# EAGLE library part LM22680QMRE-ADJ_NOPB (library LM22680QMRE-ADJ_NOPB)
2A SIMPLE SWITCHER, Step-Down Voltage Regulator with Precision Enable Source: Datasheet <http://www.ti.com/lit/gpn/lm22680-q1>
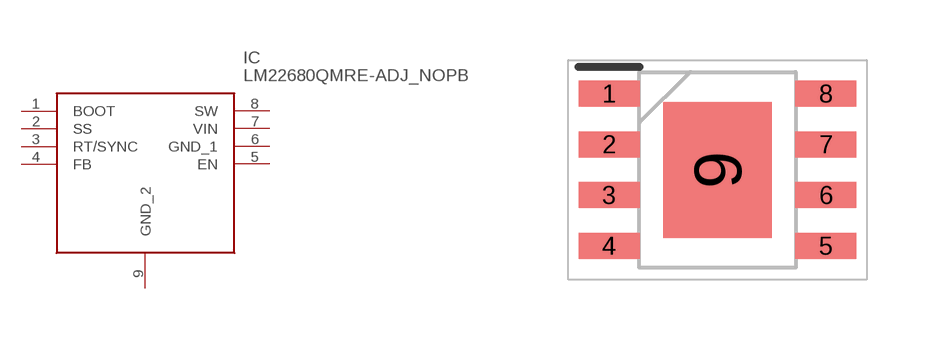
[diagram p0: symbol with the pads of SOIC127P600X170-9N; footprint SOIC127P600X170-9N]

Designator prefix IC

## LM22680QMRE-ADJ_NOPB (Description: 2A SIMPLE SWITCHER, Step-Down Voltage Regulator with Precision Enable; Height: 1.7mm; Manufacturer_Name: Texas Instruments; Manufacturer_Part_Number: LM22680QMRE-ADJ/NOPB; Mouser_Part_Number: 926-L22680QMREADJNPB; Mouser_Price-Stock: https://www.mouser.co.uk/ProductDetail/Texas-Instruments/LM22680QMRE-ADJ-NOPB?qs=g9WlUi2XTnZddrdKsERxjA%3D%3D)  [SOIC127P600X170-9N]
1  BOOT
2  SS
3  RT/SYNC
4  FB
5  EN
6  GND_1
7  VIN
8  SW
9  GND_2

## Footprint SOIC127P600X170-9N (pad centres in mm)
DDA0008B_
smd 1.525 x 0.65: 1 -2.712,1.905; 2 -2.712,0.635; 3 -2.712,-0.635; 4 -2.712,-1.905; 5 2.712,-1.905; 6 2.712,-0.635; 7 2.712,0.635; 8 2.712,1.905
smd 2.71 x 3.4: 9 0,0